# Altium schematic symbol library LED,Red,5mm,Thru.Schlib: 1 symbol
Pins are listed as number, name and electrical type; pins without a type are passive.

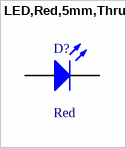
[diagram p0: symbol LED,Red,5mm,Thru]

## LED,Red,5mm,Thru
designator D?, comment Red
Red 623nm LED Indication - Discrete 2V Radial
pins: 1 A, 2 K